# Altium schematic symbol library SMDcapacitor_0805_.SchLib: 1 symbol
Pins are listed as number, name and electrical type; pins without a type are passive.

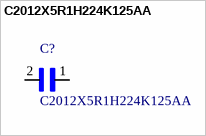
[diagram p0: symbol C2012X5R1H224K125AA]

## C2012X5R1H224K125AA
designator C?
Cap Ceramic 0.22uF 50V X5R 10% SMD 0805 85Â°C Blister Plastic T/R; MF: TDK; Digi-Key_Purchase_URL: https://www.digikey.pt/product-detail/en/tdk-corporation/C2012X5R1H224K125AA/445-14405-1-ND/3956071?utm_source=snapeda&utm_medium=aggregator&utm_campaign=symbol; Digi-Key_Part_Number: 445-14405-1-ND; MP: C2012X5R1H224K125AA; Package: 0805 TDK; SnapEDA_Link: https://www.snapeda.com/parts/C2012X5R1H224K125AA/TDK/view-part/?ref=snap; Value: *
footprint XCAPC2012X100N
pins: 1, 2